# EAGLE library part LM74670 (library LM74670 - Smart Diode Rectifier Controller)
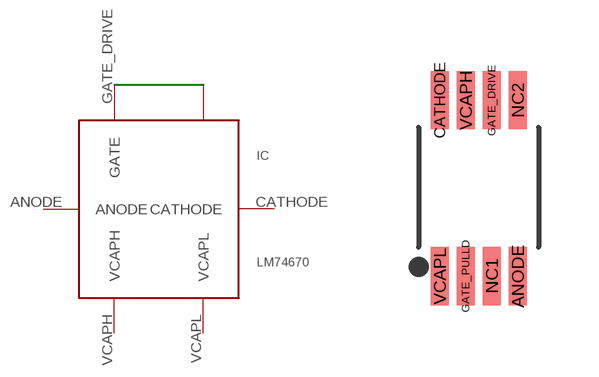
[diagram p0: symbol with the pads of VSSOP-8; footprint VSSOP-8]

Designator prefix IC

## LM74670  [VSSOP-8]
ANODE  ANODE
CATHODE  CATHODE
GATE_DRIVE  GATE
GATE_PULLD  GATE_PULLD
VCAPH  VCAPH
VCAPL  VCAPL

## Footprint VSSOP-8 (pad centres in mm)
smd 0.45 x 1.45: ANODE 0.98,-2.23; CATHODE -0.97,2.17; GATE_DRIVE 0.33,2.17; GATE_PULLD -0.32,-2.23; NC1 0.33,-2.23; NC2 0.98,2.17; VCAPH -0.32,2.17; VCAPL -0.97,-2.23